# EAGLE library part WIRL-BTCL_2604021024000 (library WIRL)
Puck-I - Bluetooth Classic Radio Module NRND WIRL-BTCL Bluetooth radio module Details see: https://we-online.de/katalog/en/article/2604021024000/
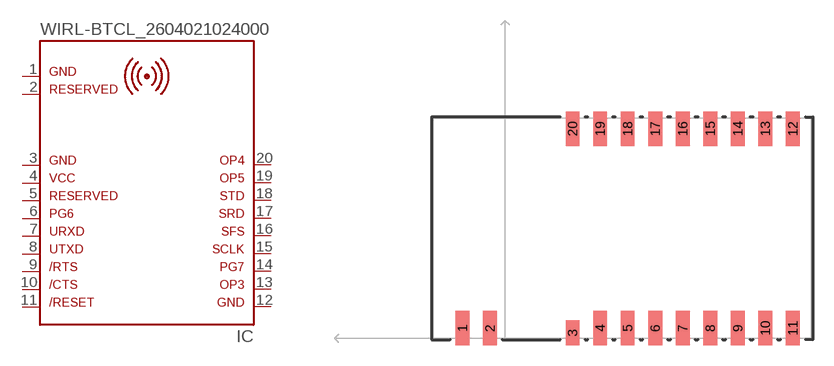
[diagram p27: symbol with the pads of WIRL-BTCL_2604021024000; footprint WIRL-BTCL_2604021024000]

Designator prefix IC

## WIRL-BTCL_2604021024000 (DATASHEET: https://www.we-online.com/redexpert/spec/2604021024000?ae; HEIGHT: 3.2mm; MANUFACTURER: Würth Elektronik; MOUNT: SMT; PART-NUMBER: 2604021024000; PREFIX: IC; VALUE: 2604021024000)  [WIRL-BTCL_2604021024000]
1  1  pas
2  2  pas
3  3  pas
4  4  pas
5  5  pas
6  6  pas
7  7  in
8  8  out
9  9  in
10  10  out
11  11  in
12  12  pas
13  13  pas
14  14  pas
15  15  pas
16  16  pas
17  17  pas
18  18  pas
19  19  pas
20  20  pas

## Footprint WIRL-BTCL_2604021024000 (pad centres in mm)
Puck-I - Bluetooth Classic Radio Module NRND WIRL-BTCL Bluetooth radio module
smd 1 x 2.5: 1 -12,-7.25; 2 -10,-7.25; 4 -2,-7.25; 5 0,-7.25; 6 2,-7.25; 7 4,-7.25; 8 6,-7.25; 9 8,-7.25; 10 10,-7.25; 11 12,-7.25; 12 12,7.25; 13 10,7.25; 14 8,7.25; 15 6,7.25; 16 4,7.25; 17 2,7.25; 18 0,7.25; 19 -2,7.25; 20 -4,7.25
smd 1 x 1.8: 3 -4,-7.6